# EAGLE library part AS5048A (library custom-devices)
Magnetic Rotary Encoder
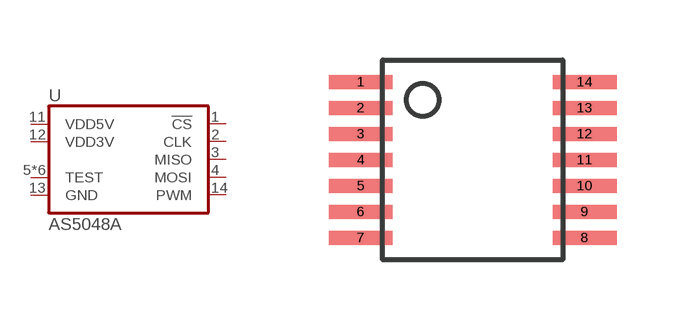
[diagram p35: symbol with the pads of TSSOP14; footprint TSSOP14]

Designator prefix U

## AS5048A_TSSOP14 (DIGI-KEY: AS5048A-HTSP-500CT-ND)  [TSSOP14]
1  !CS  in
2  CLK  in
3  MISO  out
4  MOSI  in
5  TEST
6  TEST
7  TEST
8  TEST
9  TEST
10  TEST
11  VDD5V
12  VDD3V
13  GND
14  PWM  out

## Footprint TSSOP14 (pad centres in mm)
smd 1.6 x 0.35: 1 -2.8,1.95; 2 -2.8,1.3; 3 -2.8,0.65; 4 -2.8,0; 5 -2.8,-0.65; 6 -2.8,-1.3; 7 -2.8,-1.95; 8 2.8,-1.95; 9 2.8,-1.3; 10 2.8,-0.65; 11 2.8,0; 12 2.8,0.65; 13 2.8,1.3; 14 2.8,1.95